# Altium integrated library Cypress Memory Static RAM.IntLib: 171 symbols (part 5 of 7)
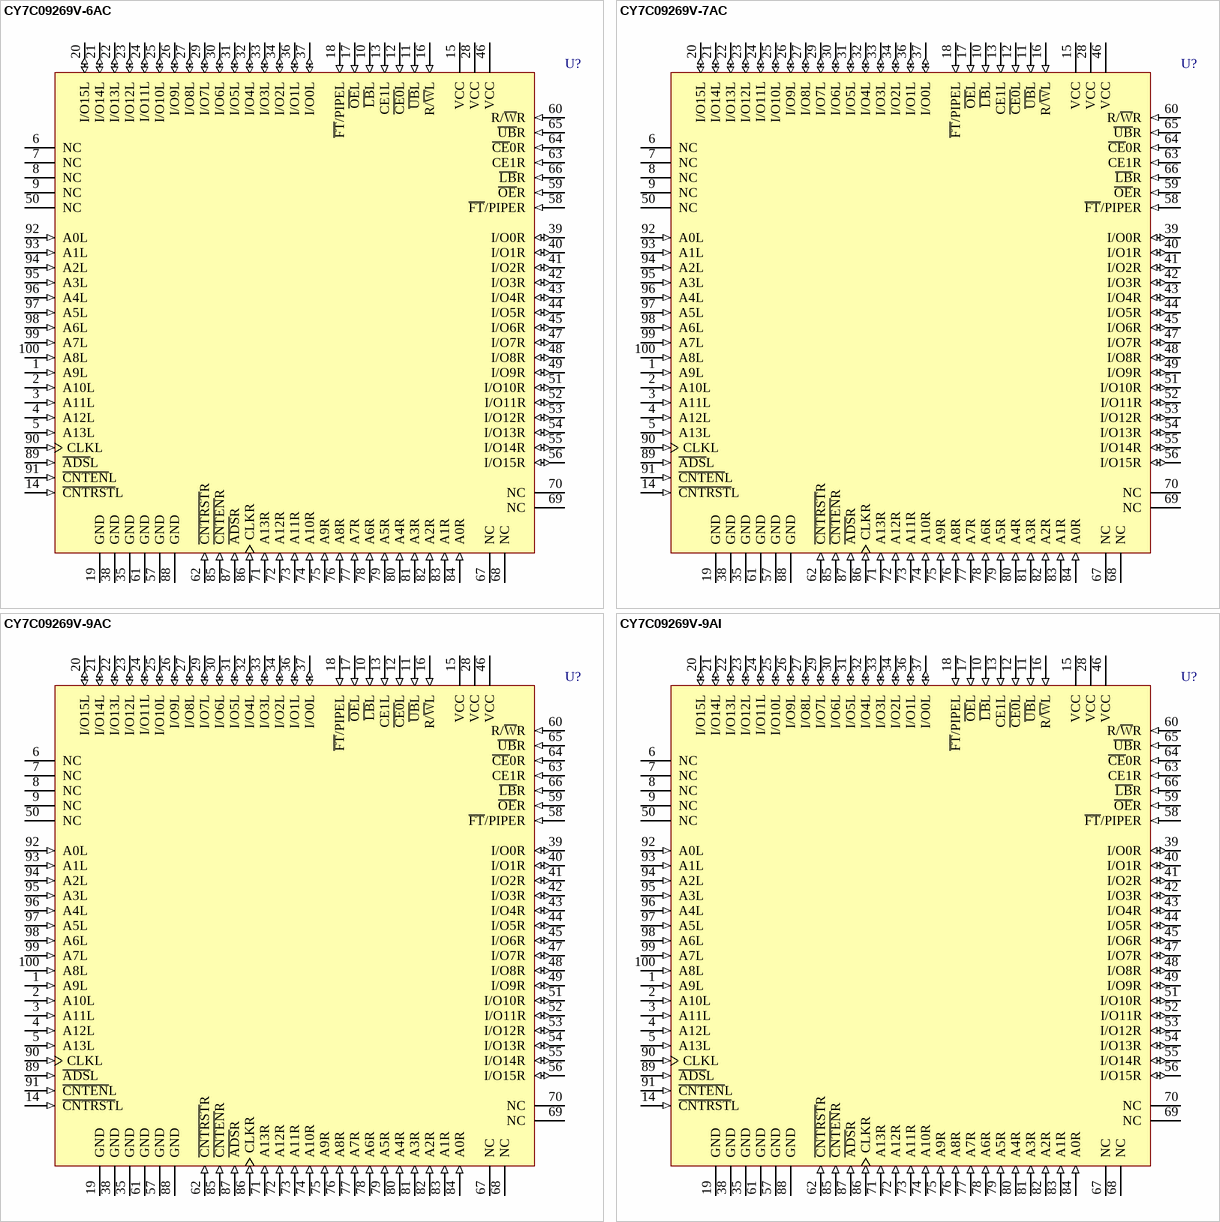
[diagram p29: symbols CY7C09269V-6AC to CY7C09269V-9AI]

## CY7C09269V-9AI
designator U?
3.3V 16K x 16 Synchronous Dual-Port Static RAM; Published: 11-Dec-2002; LatestRevisionDate: 13-Apr-2006; LatestRevisionNote: IPC-7351 Footprint Added.; DatasheetVersion: 2-Feb-2001; PackageVersion: Mar-2001; PackageReference: A100; Publisher: Altium Limited; PackageDescription: 100-Pin Thin Quad Flat Pack 0.5 mm Pitch; ComponentLink1Description: Manufacturer Link; ComponentLink1URL: http://www.cypress.com/; ComponentLink2Description: Datasheet; ComponentLink2URL: http://www.cypress.com/portal/server.pt/gateway/PTARGS_0_2_1524_209_259_43/http%3B/sjapp20.mis.cypress.com%3B7001/publishedcontent/publish/design_resources/datasheets/contents/cy7c09269v_5.pdf
footprint A100_N (Thin QFP, 100-Leads, Body 14x14mm, Pitch 0.5mm, IPC Medium Density)
footprint A100_L (Thin QFP, 100-Leads, Body 14x14mm, Pitch 0.5mm, IPC High Density)
footprint A100_M (Thin QFP, 100-Leads, Body 14x14mm, Pitch 0.5mm, IPC Low Density)
3D model CY7C09269V-A100 (100-Pin Thin Quad Flat Pack 0.5 mm Pitch)
pins: 1 A9L (in), 2 A10L (in), 3 A11L (in), 4 A12L (in), 5 A13L (in), 6 NC, 7 NC, 8 NC, 9 NC, 10 ~{LB}L (in), 11 ~{UB}L (in), 12 ~{CE0}L (in), 13 CE1L (in), 14 ~{CNTRST}L (in), 15 VCC (power), 16 R/~{W}L (in), 17 ~{OE}L (in), 18 ~{FT}/PIPEL (in), 19 GND (power), 20 I/O15L (io), 21 I/O14L (io), 22 I/O13L (io), 23 I/O12L (io), 24 I/O11L (io), 25 I/O10L (io), 26 I/O9L (io), 27 I/O8L (io), 28 VCC (power), 29 I/O7L (io), 30 I/O6L (io), 31 I/O5L (io), 32 I/O4L (io), 33 I/O3L (io), 34 I/O2L (io), 35 GND (power), 36 I/O1L (io), 37 I/O0L (io), 38 GND (power), 39 I/O0R (io), 40 I/O1R (io), 41 I/O2R (io), 42 I/O3R (io), 43 I/O4R (io), 44 I/O5R (io), 45 I/O6R (io), 46 VCC (power), 47 I/O7R (io), 48 I/O8R (io), 49 I/O9R (io), 50 NC, 51 I/O10R (io), 52 I/O11R (io), 53 I/O12R (io), 54 I/O13R (io), 55 I/O14R (io), 56 I/O15R (io), 57 GND (power), 58 ~{FT}/PIPER (in), 59 ~{OE}R (in), 60 R/~{W}R (in), 61 GND (power), 62 ~{CNTRST}R (in), 63 CE1R (in), 64 ~{CE}0R (in), 65 ~{UB}R (in), 66 ~{LB}R (in), 67 NC, 68 NC, 69 NC, 70 NC, 71 A13R (in), 72 A12R (in), 73 A11R (in), 74 A10R (in), 75 A9R (in), 76 A8R (in), 77 A7R (in), 78 A6R (in), 79 A5R (in), 80 A4R (in), 81 A3R (in), 82 A2R (in), 83 A1R (in), 84 A0R (in), 85 ~{CNTEN}R (in), 86 CLKR (in), 87 ~{ADS}R (in), 88 GND (power), 89 ~{ADS}L (in), 90 CLKL (in), 91 ~{CNTEN}L (in), 92 A0L (in), 93 A1L (in), 94 A2L (in), 95 A3L (in), 96 A4L (in), 97 A5L (in), 98 A6L (in), 99 A7L (in), 100 A8L (in)

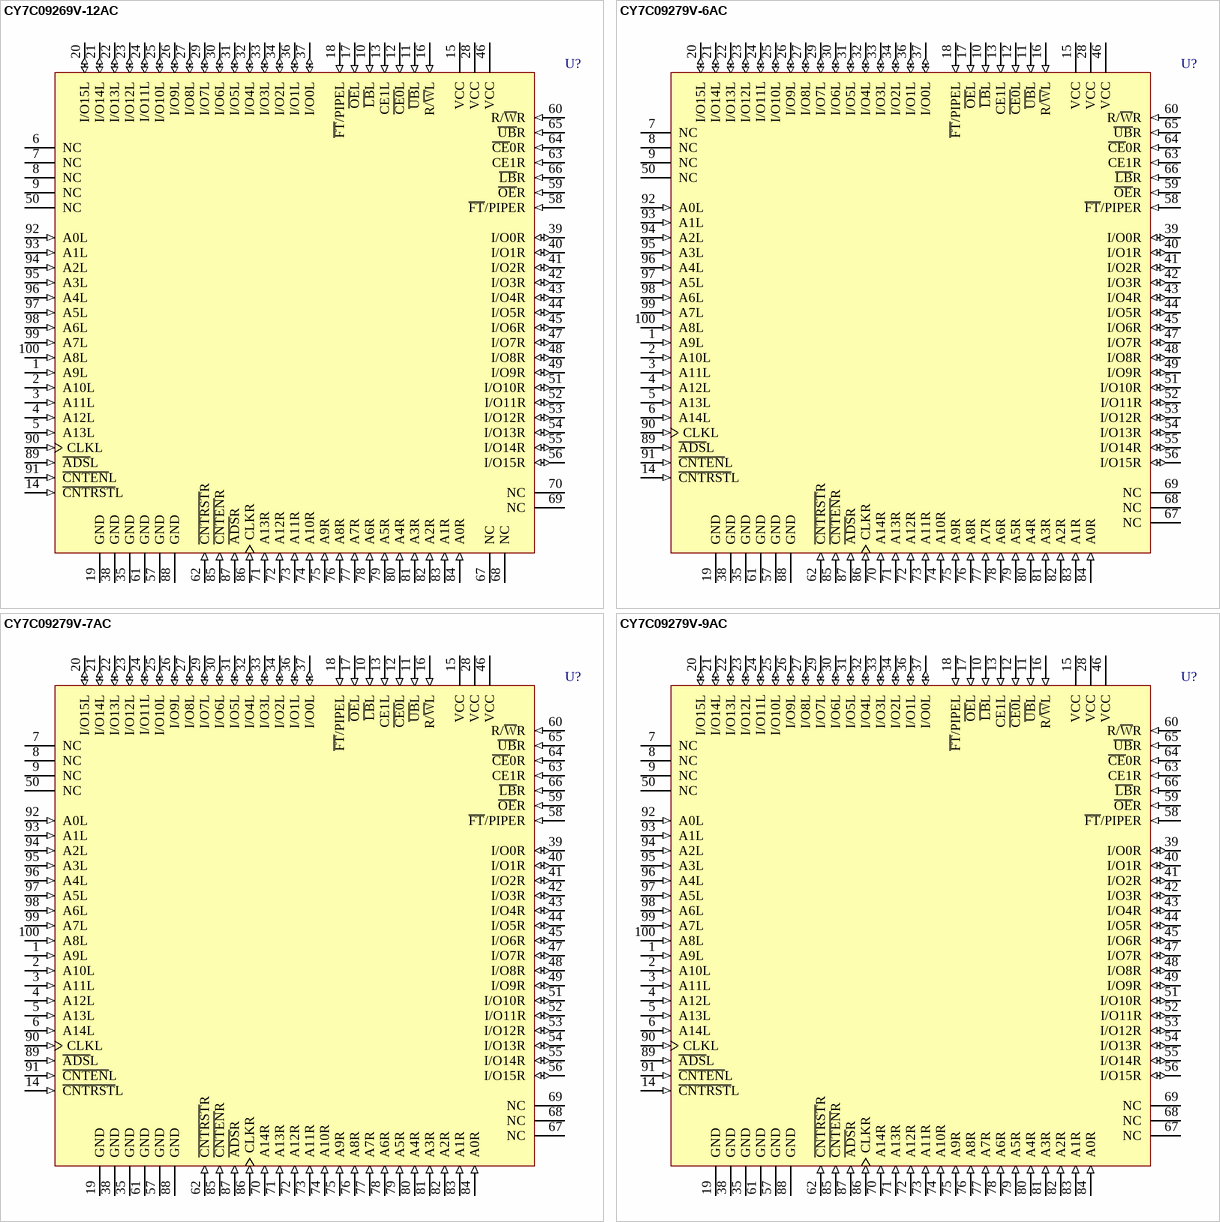
[diagram p17: symbols CY7C09269V-12AC to CY7C09279V-9AC]

## CY7C09269V-12AC
designator U?
3.3V 16K x 16 Synchronous Dual-Port Static RAM; Published: 11-Dec-2002; LatestRevisionDate: 13-Apr-2006; LatestRevisionNote: IPC-7351 Footprint Added.; DatasheetVersion: 2-Feb-2001; PackageVersion: Mar-2001; PackageReference: A100; Publisher: Altium Limited; PackageDescription: 100-Pin Thin Quad Flat Pack 0.5 mm Pitch; ComponentLink1Description: Manufacturer Link; ComponentLink1URL: http://www.cypress.com/; ComponentLink2Description: Datasheet; ComponentLink2URL: http://www.cypress.com/portal/server.pt/gateway/PTARGS_0_2_1524_209_259_43/http%3B/sjapp20.mis.cypress.com%3B7001/publishedcontent/publish/design_resources/datasheets/contents/cy7c09269v_5.pdf
footprint A100_N (Thin QFP, 100-Leads, Body 14x14mm, Pitch 0.5mm, IPC Medium Density)
footprint A100_L (Thin QFP, 100-Leads, Body 14x14mm, Pitch 0.5mm, IPC High Density)
footprint A100_M (Thin QFP, 100-Leads, Body 14x14mm, Pitch 0.5mm, IPC Low Density)
3D model CY7C09269V-A100 (100-Pin Thin Quad Flat Pack 0.5 mm Pitch)
pins: 1 A9L (in), 2 A10L (in), 3 A11L (in), 4 A12L (in), 5 A13L (in), 6 NC, 7 NC, 8 NC, 9 NC, 10 ~{LB}L (in), 11 ~{UB}L (in), 12 ~{CE0}L (in), 13 CE1L (in), 14 ~{CNTRST}L (in), 15 VCC (power), 16 R/~{W}L (in), 17 ~{OE}L (in), 18 ~{FT}/PIPEL (in), 19 GND (power), 20 I/O15L (io), 21 I/O14L (io), 22 I/O13L (io), 23 I/O12L (io), 24 I/O11L (io), 25 I/O10L (io), 26 I/O9L (io), 27 I/O8L (io), 28 VCC (power), 29 I/O7L (io), 30 I/O6L (io), 31 I/O5L (io), 32 I/O4L (io), 33 I/O3L (io), 34 I/O2L (io), 35 GND (power), 36 I/O1L (io), 37 I/O0L (io), 38 GND (power), 39 I/O0R (io), 40 I/O1R (io), 41 I/O2R (io), 42 I/O3R (io), 43 I/O4R (io), 44 I/O5R (io), 45 I/O6R (io), 46 VCC (power), 47 I/O7R (io), 48 I/O8R (io), 49 I/O9R (io), 50 NC, 51 I/O10R (io), 52 I/O11R (io), 53 I/O12R (io), 54 I/O13R (io), 55 I/O14R (io), 56 I/O15R (io), 57 GND (power), 58 ~{FT}/PIPER (in), 59 ~{OE}R (in), 60 R/~{W}R (in), 61 GND (power), 62 ~{CNTRST}R (in), 63 CE1R (in), 64 ~{CE}0R (in), 65 ~{UB}R (in), 66 ~{LB}R (in), 67 NC, 68 NC, 69 NC, 70 NC, 71 A13R (in), 72 A12R (in), 73 A11R (in), 74 A10R (in), 75 A9R (in), 76 A8R (in), 77 A7R (in), 78 A6R (in), 79 A5R (in), 80 A4R (in), 81 A3R (in), 82 A2R (in), 83 A1R (in), 84 A0R (in), 85 ~{CNTEN}R (in), 86 CLKR (in), 87 ~{ADS}R (in), 88 GND (power), 89 ~{ADS}L (in), 90 CLKL (in), 91 ~{CNTEN}L (in), 92 A0L (in), 93 A1L (in), 94 A2L (in), 95 A3L (in), 96 A4L (in), 97 A5L (in), 98 A6L (in), 99 A7L (in), 100 A8L (in)

## CY7C09279V-6AC
designator U?
3.3V 32K x 16 Synchronous Dual-Port Static RAM; Published: 11-Dec-2002; LatestRevisionDate: 13-Apr-2006; LatestRevisionNote: IPC-7351 Footprint Added.; DatasheetVersion: 2-Feb-2001; PackageVersion: Mar-2001; PackageReference: A100; Publisher: Altium Limited; PackageDescription: 100-Pin Thin Quad Flat Pack 0.5 mm Pitch; ComponentLink1Description: Manufacturer Link; ComponentLink1URL: http://www.cypress.com/; ComponentLink2Description: Datasheet; ComponentLink2URL: http://www.cypress.com/portal/server.pt/gateway/PTARGS_0_2_1524_209_259_43/http%3B/sjapp20.mis.cypress.com%3B7001/publishedcontent/publish/design_resources/datasheets/contents/cy7c09269v_5.pdf
footprint A100_N (Thin QFP, 100-Leads, Body 14x14mm, Pitch 0.5mm, IPC Medium Density)
footprint A100_L (Thin QFP, 100-Leads, Body 14x14mm, Pitch 0.5mm, IPC High Density)
footprint A100_M (Thin QFP, 100-Leads, Body 14x14mm, Pitch 0.5mm, IPC Low Density)
3D model CY7C09279V-A100 (100-Pin Thin Quad Flat Pack 0.5 mm Pitch)
pins: 1 A9L (in), 2 A10L (in), 3 A11L (in), 4 A12L (in), 5 A13L (in), 6 A14L (in), 7 NC, 8 NC, 9 NC, 10 ~{LB}L (in), 11 ~{UB}L (in), 12 ~{CE0}L (in), 13 CE1L (in), 14 ~{CNTRST}L (in), 15 VCC (power), 16 R/~{W}L (in), 17 ~{OE}L (in), 18 ~{FT}/PIPEL (in), 19 GND (power), 20 I/O15L (io), 21 I/O14L (io), 22 I/O13L (io), 23 I/O12L (io), 24 I/O11L (io), 25 I/O10L (io), 26 I/O9L (io), 27 I/O8L (io), 28 VCC (power), 29 I/O7L (io), 30 I/O6L (io), 31 I/O5L (io), 32 I/O4L (io), 33 I/O3L (io), 34 I/O2L (io), 35 GND (power), 36 I/O1L (io), 37 I/O0L (io), 38 GND (power), 39 I/O0R (io), 40 I/O1R (io), 41 I/O2R (io), 42 I/O3R (io), 43 I/O4R (io), 44 I/O5R (io), 45 I/O6R (io), 46 VCC (power), 47 I/O7R (io), 48 I/O8R (io), 49 I/O9R (io), 50 NC, 51 I/O10R (io), 52 I/O11R (io), 53 I/O12R (io), 54 I/O13R (io), 55 I/O14R (io), 56 I/O15R (io), 57 GND (power), 58 ~{FT}/PIPER (in), 59 ~{OE}R (in), 60 R/~{W}R (in), 61 GND (power), 62 ~{CNTRST}R (in), 63 CE1R (in), 64 ~{CE}0R (in), 65 ~{UB}R (in), 66 ~{LB}R (in), 67 NC, 68 NC, 69 NC, 70 A14R (in), 71 A13R (in), 72 A12R (in), 73 A11R (in), 74 A10R (in), 75 A9R (in), 76 A8R (in), 77 A7R (in), 78 A6R (in), 79 A5R (in), 80 A4R (in), 81 A3R (in), 82 A2R (in), 83 A1R (in), 84 A0R (in), 85 ~{CNTEN}R (in), 86 CLKR (in), 87 ~{ADS}R (in), 88 GND (power), 89 ~{ADS}L (in), 90 CLKL (in), 91 ~{CNTEN}L (in), 92 A0L (in), 93 A1L (in), 94 A2L (in), 95 A3L (in), 96 A4L (in), 97 A5L (in), 98 A6L (in), 99 A7L (in), 100 A8L (in)

## CY7C09279V-7AC
designator U?
3.3V 32K x 16 Synchronous Dual-Port Static RAM; Published: 11-Dec-2002; LatestRevisionDate: 13-Apr-2006; LatestRevisionNote: IPC-7351 Footprint Added.; DatasheetVersion: 2-Feb-2001; PackageVersion: Mar-2001; PackageReference: A100; Publisher: Altium Limited; PackageDescription: 100-Pin Thin Quad Flat Pack 0.5 mm Pitch; ComponentLink1Description: Manufacturer Link; ComponentLink1URL: http://www.cypress.com/; ComponentLink2Description: Datasheet; ComponentLink2URL: http://www.cypress.com/portal/server.pt/gateway/PTARGS_0_2_1524_209_259_43/http%3B/sjapp20.mis.cypress.com%3B7001/publishedcontent/publish/design_resources/datasheets/contents/cy7c09269v_5.pdf
footprint A100_N (Thin QFP, 100-Leads, Body 14x14mm, Pitch 0.5mm, IPC Medium Density)
footprint A100_L (Thin QFP, 100-Leads, Body 14x14mm, Pitch 0.5mm, IPC High Density)
footprint A100_M (Thin QFP, 100-Leads, Body 14x14mm, Pitch 0.5mm, IPC Low Density)
3D model CY7C09279V-A100 (100-Pin Thin Quad Flat Pack 0.5 mm Pitch)
pins: 1 A9L (in), 2 A10L (in), 3 A11L (in), 4 A12L (in), 5 A13L (in), 6 A14L (in), 7 NC, 8 NC, 9 NC, 10 ~{LB}L (in), 11 ~{UB}L (in), 12 ~{CE0}L (in), 13 CE1L (in), 14 ~{CNTRST}L (in), 15 VCC (power), 16 R/~{W}L (in), 17 ~{OE}L (in), 18 ~{FT}/PIPEL (in), 19 GND (power), 20 I/O15L (io), 21 I/O14L (io), 22 I/O13L (io), 23 I/O12L (io), 24 I/O11L (io), 25 I/O10L (io), 26 I/O9L (io), 27 I/O8L (io), 28 VCC (power), 29 I/O7L (io), 30 I/O6L (io), 31 I/O5L (io), 32 I/O4L (io), 33 I/O3L (io), 34 I/O2L (io), 35 GND (power), 36 I/O1L (io), 37 I/O0L (io), 38 GND (power), 39 I/O0R (io), 40 I/O1R (io), 41 I/O2R (io), 42 I/O3R (io), 43 I/O4R (io), 44 I/O5R (io), 45 I/O6R (io), 46 VCC (power), 47 I/O7R (io), 48 I/O8R (io), 49 I/O9R (io), 50 NC, 51 I/O10R (io), 52 I/O11R (io), 53 I/O12R (io), 54 I/O13R (io), 55 I/O14R (io), 56 I/O15R (io), 57 GND (power), 58 ~{FT}/PIPER (in), 59 ~{OE}R (in), 60 R/~{W}R (in), 61 GND (power), 62 ~{CNTRST}R (in), 63 CE1R (in), 64 ~{CE}0R (in), 65 ~{UB}R (in), 66 ~{LB}R (in), 67 NC, 68 NC, 69 NC, 70 A14R (in), 71 A13R (in), 72 A12R (in), 73 A11R (in), 74 A10R (in), 75 A9R (in), 76 A8R (in), 77 A7R (in), 78 A6R (in), 79 A5R (in), 80 A4R (in), 81 A3R (in), 82 A2R (in), 83 A1R (in), 84 A0R (in), 85 ~{CNTEN}R (in), 86 CLKR (in), 87 ~{ADS}R (in), 88 GND (power), 89 ~{ADS}L (in), 90 CLKL (in), 91 ~{CNTEN}L (in), 92 A0L (in), 93 A1L (in), 94 A2L (in), 95 A3L (in), 96 A4L (in), 97 A5L (in), 98 A6L (in), 99 A7L (in), 100 A8L (in)

## CY7C09279V-9AC
designator U?
3.3V 32K x 16 Synchronous Dual-Port Static RAM; Published: 11-Dec-2002; LatestRevisionDate: 13-Apr-2006; LatestRevisionNote: IPC-7351 Footprint Added.; DatasheetVersion: 2-Feb-2001; PackageVersion: Mar-2001; PackageReference: A100; Publisher: Altium Limited; PackageDescription: 100-Pin Thin Quad Flat Pack 0.5 mm Pitch; ComponentLink1Description: Manufacturer Link; ComponentLink1URL: http://www.cypress.com/; ComponentLink2Description: Datasheet; ComponentLink2URL: http://www.cypress.com/portal/server.pt/gateway/PTARGS_0_2_1524_209_259_43/http%3B/sjapp20.mis.cypress.com%3B7001/publishedcontent/publish/design_resources/datasheets/contents/cy7c09269v_5.pdf
footprint A100_N (Thin QFP, 100-Leads, Body 14x14mm, Pitch 0.5mm, IPC Medium Density)
footprint A100_L (Thin QFP, 100-Leads, Body 14x14mm, Pitch 0.5mm, IPC High Density)
footprint A100_M (Thin QFP, 100-Leads, Body 14x14mm, Pitch 0.5mm, IPC Low Density)
3D model CY7C09279V-A100 (100-Pin Thin Quad Flat Pack 0.5 mm Pitch)
pins: 1 A9L (in), 2 A10L (in), 3 A11L (in), 4 A12L (in), 5 A13L (in), 6 A14L (in), 7 NC, 8 NC, 9 NC, 10 ~{LB}L (in), 11 ~{UB}L (in), 12 ~{CE0}L (in), 13 CE1L (in), 14 ~{CNTRST}L (in), 15 VCC (power), 16 R/~{W}L (in), 17 ~{OE}L (in), 18 ~{FT}/PIPEL (in), 19 GND (power), 20 I/O15L (io), 21 I/O14L (io), 22 I/O13L (io), 23 I/O12L (io), 24 I/O11L (io), 25 I/O10L (io), 26 I/O9L (io), 27 I/O8L (io), 28 VCC (power), 29 I/O7L (io), 30 I/O6L (io), 31 I/O5L (io), 32 I/O4L (io), 33 I/O3L (io), 34 I/O2L (io), 35 GND (power), 36 I/O1L (io), 37 I/O0L (io), 38 GND (power), 39 I/O0R (io), 40 I/O1R (io), 41 I/O2R (io), 42 I/O3R (io), 43 I/O4R (io), 44 I/O5R (io), 45 I/O6R (io), 46 VCC (power), 47 I/O7R (io), 48 I/O8R (io), 49 I/O9R (io), 50 NC, 51 I/O10R (io), 52 I/O11R (io), 53 I/O12R (io), 54 I/O13R (io), 55 I/O14R (io), 56 I/O15R (io), 57 GND (power), 58 ~{FT}/PIPER (in), 59 ~{OE}R (in), 60 R/~{W}R (in), 61 GND (power), 62 ~{CNTRST}R (in), 63 CE1R (in), 64 ~{CE}0R (in), 65 ~{UB}R (in), 66 ~{LB}R (in), 67 NC, 68 NC, 69 NC, 70 A14R (in), 71 A13R (in), 72 A12R (in), 73 A11R (in), 74 A10R (in), 75 A9R (in), 76 A8R (in), 77 A7R (in), 78 A6R (in), 79 A5R (in), 80 A4R (in), 81 A3R (in), 82 A2R (in), 83 A1R (in), 84 A0R (in), 85 ~{CNTEN}R (in), 86 CLKR (in), 87 ~{ADS}R (in), 88 GND (power), 89 ~{ADS}L (in), 90 CLKL (in), 91 ~{CNTEN}L (in), 92 A0L (in), 93 A1L (in), 94 A2L (in), 95 A3L (in), 96 A4L (in), 97 A5L (in), 98 A6L (in), 99 A7L (in), 100 A8L (in)

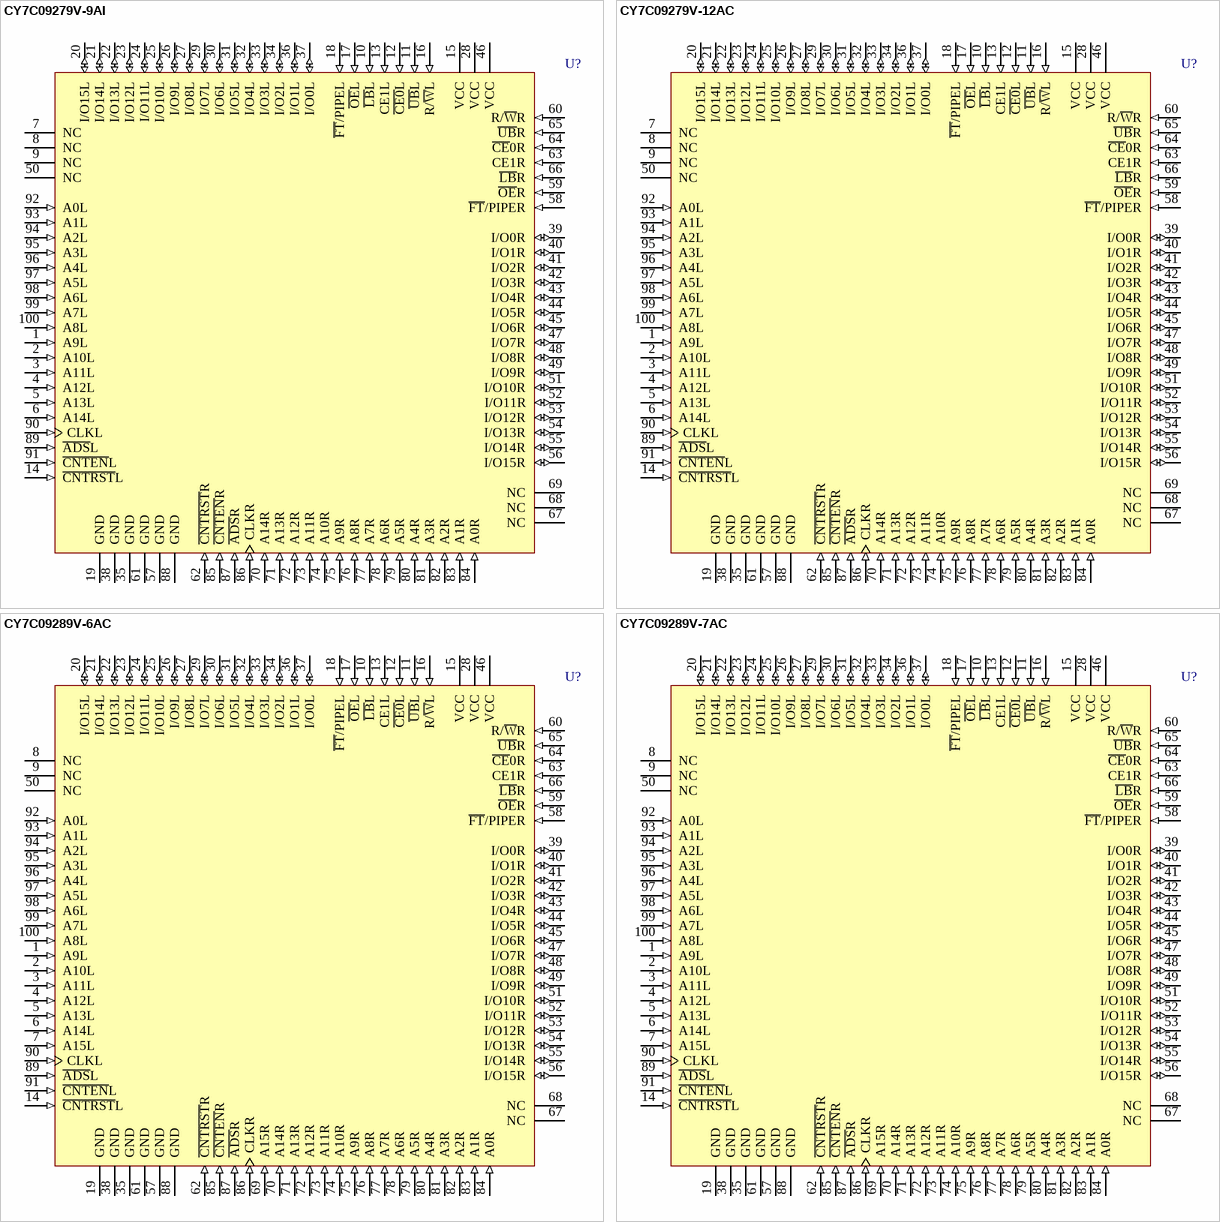
[diagram p18: symbols CY7C09279V-9AI to CY7C09289V-7AC]

## CY7C09279V-9AI
designator U?
3.3V 32K x 16 Synchronous Dual-Port Static RAM; Published: 11-Dec-2002; LatestRevisionDate: 13-Apr-2006; LatestRevisionNote: IPC-7351 Footprint Added.; DatasheetVersion: 2-Feb-2001; PackageVersion: Mar-2001; PackageReference: A100; Publisher: Altium Limited; PackageDescription: 100-Pin Thin Quad Flat Pack 0.5 mm Pitch; ComponentLink1Description: Manufacturer Link; ComponentLink1URL: http://www.cypress.com/; ComponentLink2Description: Datasheet; ComponentLink2URL: http://www.cypress.com/portal/server.pt/gateway/PTARGS_0_2_1524_209_259_43/http%3B/sjapp20.mis.cypress.com%3B7001/publishedcontent/publish/design_resources/datasheets/contents/cy7c09269v_5.pdf
footprint A100_N (Thin QFP, 100-Leads, Body 14x14mm, Pitch 0.5mm, IPC Medium Density)
footprint A100_L (Thin QFP, 100-Leads, Body 14x14mm, Pitch 0.5mm, IPC High Density)
footprint A100_M (Thin QFP, 100-Leads, Body 14x14mm, Pitch 0.5mm, IPC Low Density)
3D model CY7C09279V-A100 (100-Pin Thin Quad Flat Pack 0.5 mm Pitch)
pins: 1 A9L (in), 2 A10L (in), 3 A11L (in), 4 A12L (in), 5 A13L (in), 6 A14L (in), 7 NC, 8 NC, 9 NC, 10 ~{LB}L (in), 11 ~{UB}L (in), 12 ~{CE0}L (in), 13 CE1L (in), 14 ~{CNTRST}L (in), 15 VCC (power), 16 R/~{W}L (in), 17 ~{OE}L (in), 18 ~{FT}/PIPEL (in), 19 GND (power), 20 I/O15L (io), 21 I/O14L (io), 22 I/O13L (io), 23 I/O12L (io), 24 I/O11L (io), 25 I/O10L (io), 26 I/O9L (io), 27 I/O8L (io), 28 VCC (power), 29 I/O7L (io), 30 I/O6L (io), 31 I/O5L (io), 32 I/O4L (io), 33 I/O3L (io), 34 I/O2L (io), 35 GND (power), 36 I/O1L (io), 37 I/O0L (io), 38 GND (power), 39 I/O0R (io), 40 I/O1R (io), 41 I/O2R (io), 42 I/O3R (io), 43 I/O4R (io), 44 I/O5R (io), 45 I/O6R (io), 46 VCC (power), 47 I/O7R (io), 48 I/O8R (io), 49 I/O9R (io), 50 NC, 51 I/O10R (io), 52 I/O11R (io), 53 I/O12R (io), 54 I/O13R (io), 55 I/O14R (io), 56 I/O15R (io), 57 GND (power), 58 ~{FT}/PIPER (in), 59 ~{OE}R (in), 60 R/~{W}R (in), 61 GND (power), 62 ~{CNTRST}R (in), 63 CE1R (in), 64 ~{CE}0R (in), 65 ~{UB}R (in), 66 ~{LB}R (in), 67 NC, 68 NC, 69 NC, 70 A14R (in), 71 A13R (in), 72 A12R (in), 73 A11R (in), 74 A10R (in), 75 A9R (in), 76 A8R (in), 77 A7R (in), 78 A6R (in), 79 A5R (in), 80 A4R (in), 81 A3R (in), 82 A2R (in), 83 A1R (in), 84 A0R (in), 85 ~{CNTEN}R (in), 86 CLKR (in), 87 ~{ADS}R (in), 88 GND (power), 89 ~{ADS}L (in), 90 CLKL (in), 91 ~{CNTEN}L (in), 92 A0L (in), 93 A1L (in), 94 A2L (in), 95 A3L (in), 96 A4L (in), 97 A5L (in), 98 A6L (in), 99 A7L (in), 100 A8L (in)

## CY7C09279V-12AC
designator U?
3.3V 32K x 16 Synchronous Dual-Port Static RAM; Published: 11-Dec-2002; LatestRevisionDate: 13-Apr-2006; LatestRevisionNote: IPC-7351 Footprint Added.; DatasheetVersion: 2-Feb-2001; PackageVersion: Mar-2001; PackageReference: A100; Publisher: Altium Limited; PackageDescription: 100-Pin Thin Quad Flat Pack 0.5 mm Pitch; ComponentLink1Description: Manufacturer Link; ComponentLink1URL: http://www.cypress.com/; ComponentLink2Description: Datasheet; ComponentLink2URL: http://www.cypress.com/portal/server.pt/gateway/PTARGS_0_2_1524_209_259_43/http%3B/sjapp20.mis.cypress.com%3B7001/publishedcontent/publish/design_resources/datasheets/contents/cy7c09269v_5.pdf
footprint A100_N (Thin QFP, 100-Leads, Body 14x14mm, Pitch 0.5mm, IPC Medium Density)
footprint A100_L (Thin QFP, 100-Leads, Body 14x14mm, Pitch 0.5mm, IPC High Density)
footprint A100_M (Thin QFP, 100-Leads, Body 14x14mm, Pitch 0.5mm, IPC Low Density)
3D model CY7C09279V-A100 (100-Pin Thin Quad Flat Pack 0.5 mm Pitch)
pins: 1 A9L (in), 2 A10L (in), 3 A11L (in), 4 A12L (in), 5 A13L (in), 6 A14L (in), 7 NC, 8 NC, 9 NC, 10 ~{LB}L (in), 11 ~{UB}L (in), 12 ~{CE0}L (in), 13 CE1L (in), 14 ~{CNTRST}L (in), 15 VCC (power), 16 R/~{W}L (in), 17 ~{OE}L (in), 18 ~{FT}/PIPEL (in), 19 GND (power), 20 I/O15L (io), 21 I/O14L (io), 22 I/O13L (io), 23 I/O12L (io), 24 I/O11L (io), 25 I/O10L (io), 26 I/O9L (io), 27 I/O8L (io), 28 VCC (power), 29 I/O7L (io), 30 I/O6L (io), 31 I/O5L (io), 32 I/O4L (io), 33 I/O3L (io), 34 I/O2L (io), 35 GND (power), 36 I/O1L (io), 37 I/O0L (io), 38 GND (power), 39 I/O0R (io), 40 I/O1R (io), 41 I/O2R (io), 42 I/O3R (io), 43 I/O4R (io), 44 I/O5R (io), 45 I/O6R (io), 46 VCC (power), 47 I/O7R (io), 48 I/O8R (io), 49 I/O9R (io), 50 NC, 51 I/O10R (io), 52 I/O11R (io), 53 I/O12R (io), 54 I/O13R (io), 55 I/O14R (io), 56 I/O15R (io), 57 GND (power), 58 ~{FT}/PIPER (in), 59 ~{OE}R (in), 60 R/~{W}R (in), 61 GND (power), 62 ~{CNTRST}R (in), 63 CE1R (in), 64 ~{CE}0R (in), 65 ~{UB}R (in), 66 ~{LB}R (in), 67 NC, 68 NC, 69 NC, 70 A14R (in), 71 A13R (in), 72 A12R (in), 73 A11R (in), 74 A10R (in), 75 A9R (in), 76 A8R (in), 77 A7R (in), 78 A6R (in), 79 A5R (in), 80 A4R (in), 81 A3R (in), 82 A2R (in), 83 A1R (in), 84 A0R (in), 85 ~{CNTEN}R (in), 86 CLKR (in), 87 ~{ADS}R (in), 88 GND (power), 89 ~{ADS}L (in), 90 CLKL (in), 91 ~{CNTEN}L (in), 92 A0L (in), 93 A1L (in), 94 A2L (in), 95 A3L (in), 96 A4L (in), 97 A5L (in), 98 A6L (in), 99 A7L (in), 100 A8L (in)

## CY7C09289V-6AC
designator U?
3.3V 64K x 16 Synchronous Dual-Port Static RAM; Published: 11-Dec-2002; LatestRevisionDate: 13-Apr-2006; LatestRevisionNote: IPC-7351 Footprint Added.; DatasheetVersion: 2-Feb-2001; PackageVersion: Mar-2001; PackageReference: A100; Publisher: Altium Limited; PackageDescription: 100-Pin Thin Quad Flat Pack 0.5 mm Pitch; ComponentLink1Description: Manufacturer Link; ComponentLink1URL: http://www.cypress.com/; ComponentLink2Description: Datasheet; ComponentLink2URL: http://www.cypress.com/portal/server.pt/gateway/PTARGS_0_2_1524_209_259_43/http%3B/sjapp20.mis.cypress.com%3B7001/publishedcontent/publish/design_resources/datasheets/contents/cy7c09269v_5.pdf
footprint A100_N (Thin QFP, 100-Leads, Body 14x14mm, Pitch 0.5mm, IPC Medium Density)
footprint A100_L (Thin QFP, 100-Leads, Body 14x14mm, Pitch 0.5mm, IPC High Density)
footprint A100_M (Thin QFP, 100-Leads, Body 14x14mm, Pitch 0.5mm, IPC Low Density)
3D model CY7C09289V-A100 (100-Pin Thin Quad Flat Pack 0.5 mm Pitch)
pins: 1 A9L (in), 2 A10L (in), 3 A11L (in), 4 A12L (in), 5 A13L (in), 6 A14L (in), 7 A15L (in), 8 NC, 9 NC, 10 ~{LB}L (in), 11 ~{UB}L (in), 12 ~{CE0}L (in), 13 CE1L (in), 14 ~{CNTRST}L (in), 15 VCC (power), 16 R/~{W}L (in), 17 ~{OE}L (in), 18 ~{FT}/PIPEL (in), 19 GND (power), 20 I/O15L (io), 21 I/O14L (io), 22 I/O13L (io), 23 I/O12L (io), 24 I/O11L (io), 25 I/O10L (io), 26 I/O9L (io), 27 I/O8L (io), 28 VCC (power), 29 I/O7L (io), 30 I/O6L (io), 31 I/O5L (io), 32 I/O4L (io), 33 I/O3L (io), 34 I/O2L (io), 35 GND (power), 36 I/O1L (io), 37 I/O0L (io), 38 GND (power), 39 I/O0R (io), 40 I/O1R (io), 41 I/O2R (io), 42 I/O3R (io), 43 I/O4R (io), 44 I/O5R (io), 45 I/O6R (io), 46 VCC (power), 47 I/O7R (io), 48 I/O8R (io), 49 I/O9R (io), 50 NC, 51 I/O10R (io), 52 I/O11R (io), 53 I/O12R (io), 54 I/O13R (io), 55 I/O14R (io), 56 I/O15R (io), 57 GND (power), 58 ~{FT}/PIPER (in), 59 ~{OE}R (in), 60 R/~{W}R (in), 61 GND (power), 62 ~{CNTRST}R (in), 63 CE1R (in), 64 ~{CE}0R (in), 65 ~{UB}R (in), 66 ~{LB}R (in), 67 NC, 68 NC, 69 A15R (in), 70 A14R (in), 71 A13R (in), 72 A12R (in), 73 A11R (in), 74 A10R (in), 75 A9R (in), 76 A8R (in), 77 A7R (in), 78 A6R (in), 79 A5R (in), 80 A4R (in), 81 A3R (in), 82 A2R (in), 83 A1R (in), 84 A0R (in), 85 ~{CNTEN}R (in), 86 CLKR (in), 87 ~{ADS}R (in), 88 GND (power), 89 ~{ADS}L (in), 90 CLKL (in), 91 ~{CNTEN}L (in), 92 A0L (in), 93 A1L (in), 94 A2L (in), 95 A3L (in), 96 A4L (in), 97 A5L (in), 98 A6L (in), 99 A7L (in), 100 A8L (in)

## CY7C09289V-7AC
designator U?
3.3V 64K x 16 Synchronous Dual-Port Static RAM; Published: 11-Dec-2002; LatestRevisionDate: 13-Apr-2006; LatestRevisionNote: IPC-7351 Footprint Added.; DatasheetVersion: 2-Feb-2001; PackageVersion: Mar-2001; PackageReference: A100; Publisher: Altium Limited; PackageDescription: 100-Pin Thin Quad Flat Pack 0.5 mm Pitch; ComponentLink1Description: Manufacturer Link; ComponentLink1URL: http://www.cypress.com/; ComponentLink2Description: Datasheet; ComponentLink2URL: http://www.cypress.com/portal/server.pt/gateway/PTARGS_0_2_1524_209_259_43/http%3B/sjapp20.mis.cypress.com%3B7001/publishedcontent/publish/design_resources/datasheets/contents/cy7c09269v_5.pdf
footprint A100_N (Thin QFP, 100-Leads, Body 14x14mm, Pitch 0.5mm, IPC Medium Density)
footprint A100_L (Thin QFP, 100-Leads, Body 14x14mm, Pitch 0.5mm, IPC High Density)
footprint A100_M (Thin QFP, 100-Leads, Body 14x14mm, Pitch 0.5mm, IPC Low Density)
3D model CY7C09289V-A100 (100-Pin Thin Quad Flat Pack 0.5 mm Pitch)
pins: 1 A9L (in), 2 A10L (in), 3 A11L (in), 4 A12L (in), 5 A13L (in), 6 A14L (in), 7 A15L (in), 8 NC, 9 NC, 10 ~{LB}L (in), 11 ~{UB}L (in), 12 ~{CE0}L (in), 13 CE1L (in), 14 ~{CNTRST}L (in), 15 VCC (power), 16 R/~{W}L (in), 17 ~{OE}L (in), 18 ~{FT}/PIPEL (in), 19 GND (power), 20 I/O15L (io), 21 I/O14L (io), 22 I/O13L (io), 23 I/O12L (io), 24 I/O11L (io), 25 I/O10L (io), 26 I/O9L (io), 27 I/O8L (io), 28 VCC (power), 29 I/O7L (io), 30 I/O6L (io), 31 I/O5L (io), 32 I/O4L (io), 33 I/O3L (io), 34 I/O2L (io), 35 GND (power), 36 I/O1L (io), 37 I/O0L (io), 38 GND (power), 39 I/O0R (io), 40 I/O1R (io), 41 I/O2R (io), 42 I/O3R (io), 43 I/O4R (io), 44 I/O5R (io), 45 I/O6R (io), 46 VCC (power), 47 I/O7R (io), 48 I/O8R (io), 49 I/O9R (io), 50 NC, 51 I/O10R (io), 52 I/O11R (io), 53 I/O12R (io), 54 I/O13R (io), 55 I/O14R (io), 56 I/O15R (io), 57 GND (power), 58 ~{FT}/PIPER (in), 59 ~{OE}R (in), 60 R/~{W}R (in), 61 GND (power), 62 ~{CNTRST}R (in), 63 CE1R (in), 64 ~{CE}0R (in), 65 ~{UB}R (in), 66 ~{LB}R (in), 67 NC, 68 NC, 69 A15R (in), 70 A14R (in), 71 A13R (in), 72 A12R (in), 73 A11R (in), 74 A10R (in), 75 A9R (in), 76 A8R (in), 77 A7R (in), 78 A6R (in), 79 A5R (in), 80 A4R (in), 81 A3R (in), 82 A2R (in), 83 A1R (in), 84 A0R (in), 85 ~{CNTEN}R (in), 86 CLKR (in), 87 ~{ADS}R (in), 88 GND (power), 89 ~{ADS}L (in), 90 CLKL (in), 91 ~{CNTEN}L (in), 92 A0L (in), 93 A1L (in), 94 A2L (in), 95 A3L (in), 96 A4L (in), 97 A5L (in), 98 A6L (in), 99 A7L (in), 100 A8L (in)

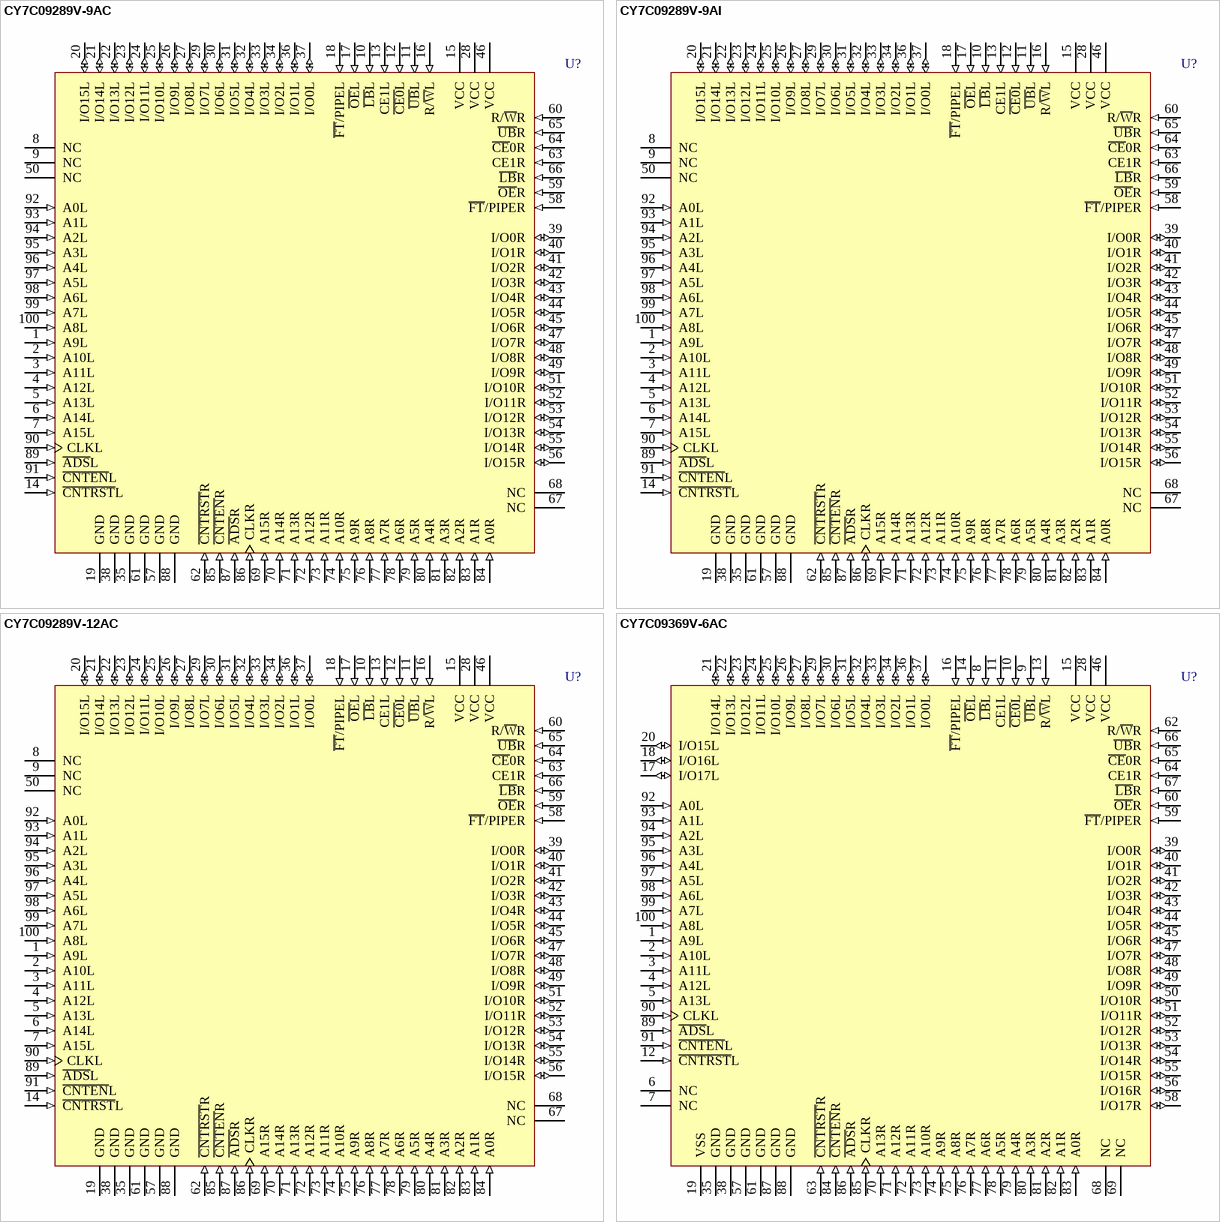
[diagram p19: symbols CY7C09289V-9AC to CY7C09369V-6AC]

## CY7C09289V-9AC
designator U?
3.3V 64K x 16 Synchronous Dual-Port Static RAM; Published: 11-Dec-2002; LatestRevisionDate: 13-Apr-2006; LatestRevisionNote: IPC-7351 Footprint Added.; DatasheetVersion: 2-Feb-2001; PackageVersion: Mar-2001; PackageReference: A100; Publisher: Altium Limited; PackageDescription: 100-Pin Thin Quad Flat Pack 0.5 mm Pitch; ComponentLink1Description: Manufacturer Link; ComponentLink1URL: http://www.cypress.com/; ComponentLink2Description: Datasheet; ComponentLink2URL: http://www.cypress.com/portal/server.pt/gateway/PTARGS_0_2_1524_209_259_43/http%3B/sjapp20.mis.cypress.com%3B7001/publishedcontent/publish/design_resources/datasheets/contents/cy7c09269v_5.pdf
footprint A100_N (Thin QFP, 100-Leads, Body 14x14mm, Pitch 0.5mm, IPC Medium Density)
footprint A100_L (Thin QFP, 100-Leads, Body 14x14mm, Pitch 0.5mm, IPC High Density)
footprint A100_M (Thin QFP, 100-Leads, Body 14x14mm, Pitch 0.5mm, IPC Low Density)
3D model CY7C09289V-A100 (100-Pin Thin Quad Flat Pack 0.5 mm Pitch)
pins: 1 A9L (in), 2 A10L (in), 3 A11L (in), 4 A12L (in), 5 A13L (in), 6 A14L (in), 7 A15L (in), 8 NC, 9 NC, 10 ~{LB}L (in), 11 ~{UB}L (in), 12 ~{CE0}L (in), 13 CE1L (in), 14 ~{CNTRST}L (in), 15 VCC (power), 16 R/~{W}L (in), 17 ~{OE}L (in), 18 ~{FT}/PIPEL (in), 19 GND (power), 20 I/O15L (io), 21 I/O14L (io), 22 I/O13L (io), 23 I/O12L (io), 24 I/O11L (io), 25 I/O10L (io), 26 I/O9L (io), 27 I/O8L (io), 28 VCC (power), 29 I/O7L (io), 30 I/O6L (io), 31 I/O5L (io), 32 I/O4L (io), 33 I/O3L (io), 34 I/O2L (io), 35 GND (power), 36 I/O1L (io), 37 I/O0L (io), 38 GND (power), 39 I/O0R (io), 40 I/O1R (io), 41 I/O2R (io), 42 I/O3R (io), 43 I/O4R (io), 44 I/O5R (io), 45 I/O6R (io), 46 VCC (power), 47 I/O7R (io), 48 I/O8R (io), 49 I/O9R (io), 50 NC, 51 I/O10R (io), 52 I/O11R (io), 53 I/O12R (io), 54 I/O13R (io), 55 I/O14R (io), 56 I/O15R (io), 57 GND (power), 58 ~{FT}/PIPER (in), 59 ~{OE}R (in), 60 R/~{W}R (in), 61 GND (power), 62 ~{CNTRST}R (in), 63 CE1R (in), 64 ~{CE}0R (in), 65 ~{UB}R (in), 66 ~{LB}R (in), 67 NC, 68 NC, 69 A15R (in), 70 A14R (in), 71 A13R (in), 72 A12R (in), 73 A11R (in), 74 A10R (in), 75 A9R (in), 76 A8R (in), 77 A7R (in), 78 A6R (in), 79 A5R (in), 80 A4R (in), 81 A3R (in), 82 A2R (in), 83 A1R (in), 84 A0R (in), 85 ~{CNTEN}R (in), 86 CLKR (in), 87 ~{ADS}R (in), 88 GND (power), 89 ~{ADS}L (in), 90 CLKL (in), 91 ~{CNTEN}L (in), 92 A0L (in), 93 A1L (in), 94 A2L (in), 95 A3L (in), 96 A4L (in), 97 A5L (in), 98 A6L (in), 99 A7L (in), 100 A8L (in)

## CY7C09289V-9AI
designator U?
3.3V 64K x 16 Synchronous Dual-Port Static RAM; Published: 11-Dec-2002; LatestRevisionDate: 13-Apr-2006; LatestRevisionNote: IPC-7351 Footprint Added.; DatasheetVersion: 2-Feb-2001; PackageVersion: Mar-2001; PackageReference: A100; Publisher: Altium Limited; PackageDescription: 100-Pin Thin Quad Flat Pack 0.5 mm Pitch; ComponentLink1Description: Manufacturer Link; ComponentLink1URL: http://www.cypress.com/; ComponentLink2Description: Datasheet; ComponentLink2URL: http://www.cypress.com/portal/server.pt/gateway/PTARGS_0_2_1524_209_259_43/http%3B/sjapp20.mis.cypress.com%3B7001/publishedcontent/publish/design_resources/datasheets/contents/cy7c09269v_5.pdf
footprint A100_N (Thin QFP, 100-Leads, Body 14x14mm, Pitch 0.5mm, IPC Medium Density)
footprint A100_L (Thin QFP, 100-Leads, Body 14x14mm, Pitch 0.5mm, IPC High Density)
footprint A100_M (Thin QFP, 100-Leads, Body 14x14mm, Pitch 0.5mm, IPC Low Density)
3D model CY7C09289V-A100 (100-Pin Thin Quad Flat Pack 0.5 mm Pitch)
pins: 1 A9L (in), 2 A10L (in), 3 A11L (in), 4 A12L (in), 5 A13L (in), 6 A14L (in), 7 A15L (in), 8 NC, 9 NC, 10 ~{LB}L (in), 11 ~{UB}L (in), 12 ~{CE0}L (in), 13 CE1L (in), 14 ~{CNTRST}L (in), 15 VCC (power), 16 R/~{W}L (in), 17 ~{OE}L (in), 18 ~{FT}/PIPEL (in), 19 GND (power), 20 I/O15L (io), 21 I/O14L (io), 22 I/O13L (io), 23 I/O12L (io), 24 I/O11L (io), 25 I/O10L (io), 26 I/O9L (io), 27 I/O8L (io), 28 VCC (power), 29 I/O7L (io), 30 I/O6L (io), 31 I/O5L (io), 32 I/O4L (io), 33 I/O3L (io), 34 I/O2L (io), 35 GND (power), 36 I/O1L (io), 37 I/O0L (io), 38 GND (power), 39 I/O0R (io), 40 I/O1R (io), 41 I/O2R (io), 42 I/O3R (io), 43 I/O4R (io), 44 I/O5R (io), 45 I/O6R (io), 46 VCC (power), 47 I/O7R (io), 48 I/O8R (io), 49 I/O9R (io), 50 NC, 51 I/O10R (io), 52 I/O11R (io), 53 I/O12R (io), 54 I/O13R (io), 55 I/O14R (io), 56 I/O15R (io), 57 GND (power), 58 ~{FT}/PIPER (in), 59 ~{OE}R (in), 60 R/~{W}R (in), 61 GND (power), 62 ~{CNTRST}R (in), 63 CE1R (in), 64 ~{CE}0R (in), 65 ~{UB}R (in), 66 ~{LB}R (in), 67 NC, 68 NC, 69 A15R (in), 70 A14R (in), 71 A13R (in), 72 A12R (in), 73 A11R (in), 74 A10R (in), 75 A9R (in), 76 A8R (in), 77 A7R (in), 78 A6R (in), 79 A5R (in), 80 A4R (in), 81 A3R (in), 82 A2R (in), 83 A1R (in), 84 A0R (in), 85 ~{CNTEN}R (in), 86 CLKR (in), 87 ~{ADS}R (in), 88 GND (power), 89 ~{ADS}L (in), 90 CLKL (in), 91 ~{CNTEN}L (in), 92 A0L (in), 93 A1L (in), 94 A2L (in), 95 A3L (in), 96 A4L (in), 97 A5L (in), 98 A6L (in), 99 A7L (in), 100 A8L (in)

## CY7C09289V-12AC
designator U?
3.3V 64K x 16 Synchronous Dual-Port Static RAM; Published: 11-Dec-2002; LatestRevisionDate: 13-Apr-2006; LatestRevisionNote: IPC-7351 Footprint Added.; DatasheetVersion: 2-Feb-2001; PackageVersion: Mar-2001; PackageReference: A100; Publisher: Altium Limited; PackageDescription: 100-Pin Thin Quad Flat Pack 0.5 mm Pitch; ComponentLink1Description: Manufacturer Link; ComponentLink1URL: http://www.cypress.com/; ComponentLink2Description: Datasheet; ComponentLink2URL: http://www.cypress.com/portal/server.pt/gateway/PTARGS_0_2_1524_209_259_43/http%3B/sjapp20.mis.cypress.com%3B7001/publishedcontent/publish/design_resources/datasheets/contents/cy7c09269v_5.pdf
footprint A100_N (Thin QFP, 100-Leads, Body 14x14mm, Pitch 0.5mm, IPC Medium Density)
footprint A100_L (Thin QFP, 100-Leads, Body 14x14mm, Pitch 0.5mm, IPC High Density)
footprint A100_M (Thin QFP, 100-Leads, Body 14x14mm, Pitch 0.5mm, IPC Low Density)
3D model CY7C09289V-A100 (100-Pin Thin Quad Flat Pack 0.5 mm Pitch)
pins: 1 A9L (in), 2 A10L (in), 3 A11L (in), 4 A12L (in), 5 A13L (in), 6 A14L (in), 7 A15L (in), 8 NC, 9 NC, 10 ~{LB}L (in), 11 ~{UB}L (in), 12 ~{CE0}L (in), 13 CE1L (in), 14 ~{CNTRST}L (in), 15 VCC (power), 16 R/~{W}L (in), 17 ~{OE}L (in), 18 ~{FT}/PIPEL (in), 19 GND (power), 20 I/O15L (io), 21 I/O14L (io), 22 I/O13L (io), 23 I/O12L (io), 24 I/O11L (io), 25 I/O10L (io), 26 I/O9L (io), 27 I/O8L (io), 28 VCC (power), 29 I/O7L (io), 30 I/O6L (io), 31 I/O5L (io), 32 I/O4L (io), 33 I/O3L (io), 34 I/O2L (io), 35 GND (power), 36 I/O1L (io), 37 I/O0L (io), 38 GND (power), 39 I/O0R (io), 40 I/O1R (io), 41 I/O2R (io), 42 I/O3R (io), 43 I/O4R (io), 44 I/O5R (io), 45 I/O6R (io), 46 VCC (power), 47 I/O7R (io), 48 I/O8R (io), 49 I/O9R (io), 50 NC, 51 I/O10R (io), 52 I/O11R (io), 53 I/O12R (io), 54 I/O13R (io), 55 I/O14R (io), 56 I/O15R (io), 57 GND (power), 58 ~{FT}/PIPER (in), 59 ~{OE}R (in), 60 R/~{W}R (in), 61 GND (power), 62 ~{CNTRST}R (in), 63 CE1R (in), 64 ~{CE}0R (in), 65 ~{UB}R (in), 66 ~{LB}R (in), 67 NC, 68 NC, 69 A15R (in), 70 A14R (in), 71 A13R (in), 72 A12R (in), 73 A11R (in), 74 A10R (in), 75 A9R (in), 76 A8R (in), 77 A7R (in), 78 A6R (in), 79 A5R (in), 80 A4R (in), 81 A3R (in), 82 A2R (in), 83 A1R (in), 84 A0R (in), 85 ~{CNTEN}R (in), 86 CLKR (in), 87 ~{ADS}R (in), 88 GND (power), 89 ~{ADS}L (in), 90 CLKL (in), 91 ~{CNTEN}L (in), 92 A0L (in), 93 A1L (in), 94 A2L (in), 95 A3L (in), 96 A4L (in), 97 A5L (in), 98 A6L (in), 99 A7L (in), 100 A8L (in)

## CY7C09369V-6AC
designator U?
3.3V 16K x 18 Synchronous Dual-Port Static RAM; Published: 11-Dec-2002; LatestRevisionDate: 13-Apr-2006; LatestRevisionNote: IPC-7351 Footprint Added.; DatasheetVersion: 2-Feb-2001; PackageVersion: Mar-2001; PackageReference: A100; Publisher: Altium Limited; PackageDescription: 100-Pin Thin Quad Flat Pack 0.5 mm Pitch; ComponentLink1Description: Manufacturer Link; ComponentLink1URL: http://www.cypress.com/; ComponentLink2Description: Datasheet; ComponentLink2URL: http://www.cypress.com/portal/server.pt/gateway/PTARGS_0_2_1524_209_259_43/http%3B/sjapp20.mis.cypress.com%3B7001/publishedcontent/publish/design_resources/datasheets/contents/cy7c09269v_5.pdf
footprint A100_N (Thin QFP, 100-Leads, Body 14x14mm, Pitch 0.5mm, IPC Medium Density)
footprint A100_L (Thin QFP, 100-Leads, Body 14x14mm, Pitch 0.5mm, IPC High Density)
footprint A100_M (Thin QFP, 100-Leads, Body 14x14mm, Pitch 0.5mm, IPC Low Density)
3D model CY7C09369V-A100 (100-Pin Thin Quad Flat Pack 0.5 mm Pitch)
pins: 1 A9L (in), 2 A10L (in), 3 A11L (in), 4 A12L (in), 5 A13L (in), 6 NC, 7 NC, 8 ~{LB}L (in), 9 ~{UB}L (in), 10 ~{CE0}L (in), 11 CE1L (in), 12 ~{CNTRST}L (in), 13 R/~{W}L (in), 14 ~{OE}L (in), 15 VCC (power), 16 ~{FT}/PIPEL (in), 17 I/O17L (io), 18 I/O16L (io), 19 VSS (power), 20 I/O15L (io), 21 I/O14L (io), 22 I/O13L (io), 23 I/O12L (io), 24 I/O11L (io), 25 I/O10L (io), 26 I/O9L (io), 27 I/O8L (io), 28 VCC (power), 29 I/O7L (io), 30 I/O6L (io), 31 I/O5L (io), 32 I/O4L (io), 33 I/O3L (io), 34 I/O2L (io), 35 GND (power), 36 I/O1L (io), 37 I/O0L (io), 38 GND (power), 39 I/O0R (io), 40 I/O1R (io), 41 I/O2R (io), 42 I/O3R (io), 43 I/O4R (io), 44 I/O5R (io), 45 I/O6R (io), 46 VCC (power), 47 I/O7R (io), 48 I/O8R (io), 49 I/O9R (io), 50 I/O10R (io), 51 I/O11R (io), 52 I/O12R (io), 53 I/O13R (io), 54 I/O14R (io), 55 I/O15R (io), 56 I/O16R (io), 57 GND (power), 58 I/O17R (io), 59 ~{FT}/PIPER (in), 60 ~{OE}R (in), 61 GND (power), 62 R/~{W}R (in), 63 ~{CNTRST}R (in), 64 CE1R (in), 65 ~{CE}0R (in), 66 ~{UB}R (in), 67 ~{LB}R (in), 68 NC, 69 NC, 70 A13R (in), 71 A12R (in), 72 A11R (in), 73 A10R (in), 74 A9R (in), 75 A8R (in), 76 A7R (in), 77 A6R (in), 78 A5R (in), 79 A4R (in), 80 A3R (in), 81 A2R (in), 82 A1R (in), 83 A0R (in), 84 ~{CNTEN}R (in), 85 CLKR (in), 86 ~{ADS}R (in), 87 GND (power), 88 GND (power), 89 ~{ADS}L (in), 90 CLKL (in), 91 ~{CNTEN}L (in), 92 A0L (in), 93 A1L (in), 94 A2L (in), 95 A3L (in), 96 A4L (in), 97 A5L (in), 98 A6L (in), 99 A7L (in), 100 A8L (in)

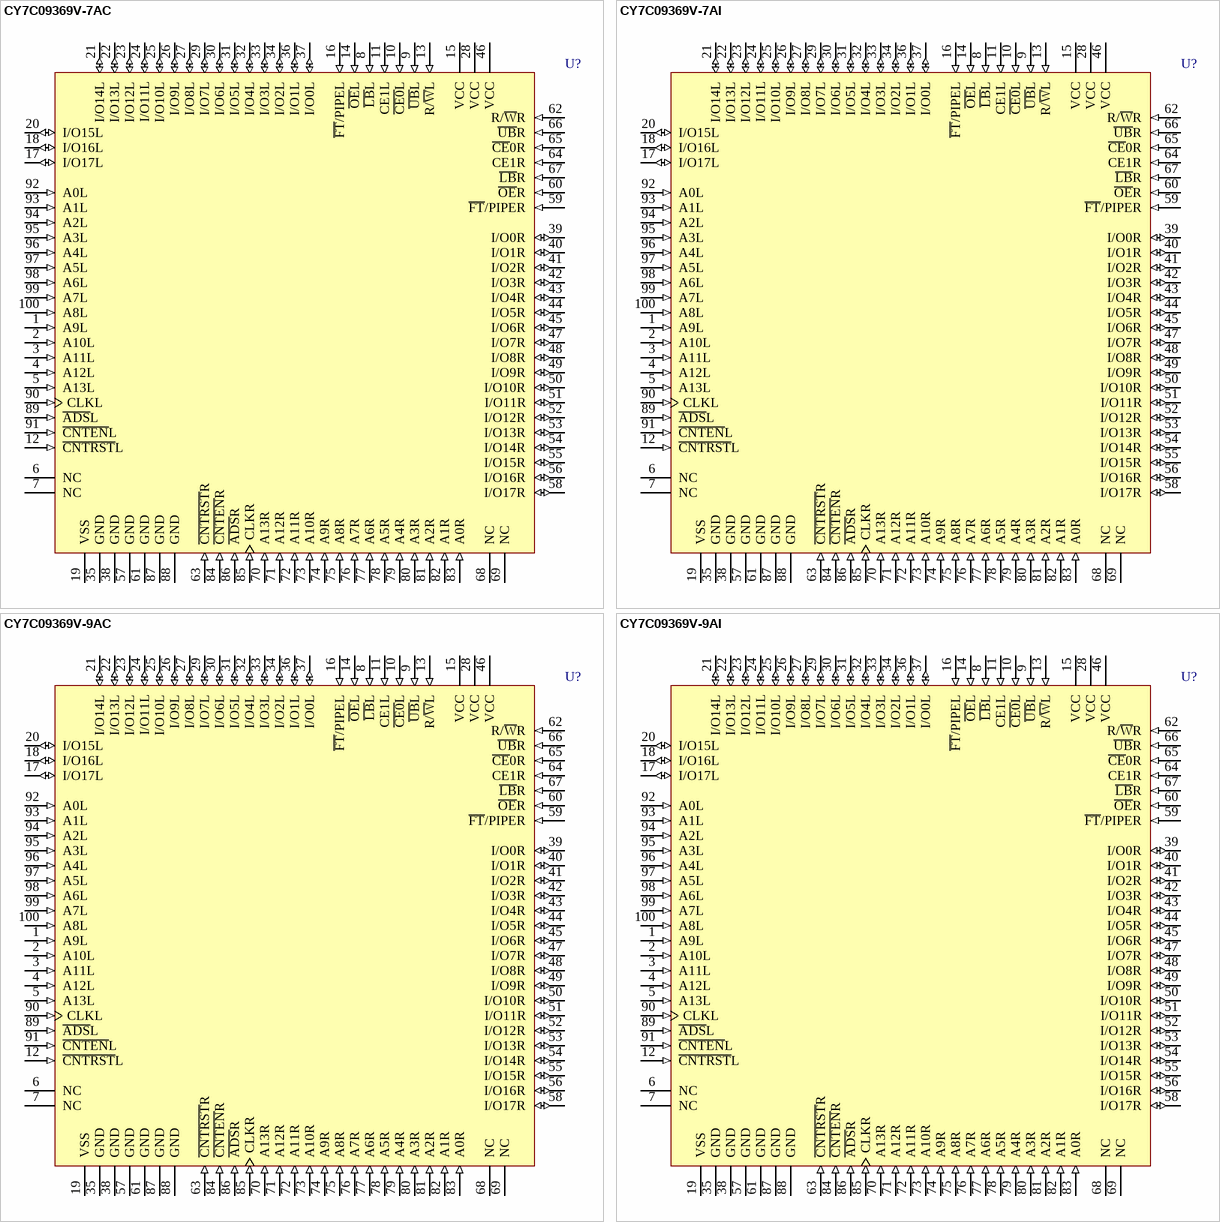
[diagram p20: symbols CY7C09369V-7AC to CY7C09369V-9AI]

## CY7C09369V-7AC
designator U?
3.3V 16K x 18 Synchronous Dual-Port Static RAM; Published: 11-Dec-2002; LatestRevisionDate: 13-Apr-2006; LatestRevisionNote: IPC-7351 Footprint Added.; DatasheetVersion: 2-Feb-2001; PackageVersion: Mar-2001; PackageReference: A100; Publisher: Altium Limited; PackageDescription: 100-Pin Thin Quad Flat Pack 0.5 mm Pitch; ComponentLink1Description: Manufacturer Link; ComponentLink1URL: http://www.cypress.com/; ComponentLink2Description: Datasheet; ComponentLink2URL: http://www.cypress.com/portal/server.pt/gateway/PTARGS_0_2_1524_209_259_43/http%3B/sjapp20.mis.cypress.com%3B7001/publishedcontent/publish/design_resources/datasheets/contents/cy7c09269v_5.pdf
footprint A100_N (Thin QFP, 100-Leads, Body 14x14mm, Pitch 0.5mm, IPC Medium Density)
footprint A100_L (Thin QFP, 100-Leads, Body 14x14mm, Pitch 0.5mm, IPC High Density)
footprint A100_M (Thin QFP, 100-Leads, Body 14x14mm, Pitch 0.5mm, IPC Low Density)
3D model CY7C09369V-A100 (100-Pin Thin Quad Flat Pack 0.5 mm Pitch)
pins: 1 A9L (in), 2 A10L (in), 3 A11L (in), 4 A12L (in), 5 A13L (in), 6 NC, 7 NC, 8 ~{LB}L (in), 9 ~{UB}L (in), 10 ~{CE0}L (in), 11 CE1L (in), 12 ~{CNTRST}L (in), 13 R/~{W}L (in), 14 ~{OE}L (in), 15 VCC (power), 16 ~{FT}/PIPEL (in), 17 I/O17L (io), 18 I/O16L (io), 19 VSS (power), 20 I/O15L (io), 21 I/O14L (io), 22 I/O13L (io), 23 I/O12L (io), 24 I/O11L (io), 25 I/O10L (io), 26 I/O9L (io), 27 I/O8L (io), 28 VCC (power), 29 I/O7L (io), 30 I/O6L (io), 31 I/O5L (io), 32 I/O4L (io), 33 I/O3L (io), 34 I/O2L (io), 35 GND (power), 36 I/O1L (io), 37 I/O0L (io), 38 GND (power), 39 I/O0R (io), 40 I/O1R (io), 41 I/O2R (io), 42 I/O3R (io), 43 I/O4R (io), 44 I/O5R (io), 45 I/O6R (io), 46 VCC (power), 47 I/O7R (io), 48 I/O8R (io), 49 I/O9R (io), 50 I/O10R (io), 51 I/O11R (io), 52 I/O12R (io), 53 I/O13R (io), 54 I/O14R (io), 55 I/O15R (io), 56 I/O16R (io), 57 GND (power), 58 I/O17R (io), 59 ~{FT}/PIPER (in), 60 ~{OE}R (in), 61 GND (power), 62 R/~{W}R (in), 63 ~{CNTRST}R (in), 64 CE1R (in), 65 ~{CE}0R (in), 66 ~{UB}R (in), 67 ~{LB}R (in), 68 NC, 69 NC, 70 A13R (in), 71 A12R (in), 72 A11R (in), 73 A10R (in), 74 A9R (in), 75 A8R (in), 76 A7R (in), 77 A6R (in), 78 A5R (in), 79 A4R (in), 80 A3R (in), 81 A2R (in), 82 A1R (in), 83 A0R (in), 84 ~{CNTEN}R (in), 85 CLKR (in), 86 ~{ADS}R (in), 87 GND (power), 88 GND (power), 89 ~{ADS}L (in), 90 CLKL (in), 91 ~{CNTEN}L (in), 92 A0L (in), 93 A1L (in), 94 A2L (in), 95 A3L (in), 96 A4L (in), 97 A5L (in), 98 A6L (in), 99 A7L (in), 100 A8L (in)

## CY7C09369V-7AI
designator U?
3.3V 16K x 18 Synchronous Dual-Port Static RAM; Published: 11-Dec-2002; LatestRevisionDate: 13-Apr-2006; LatestRevisionNote: IPC-7351 Footprint Added.; DatasheetVersion: 2-Feb-2001; PackageVersion: Mar-2001; PackageReference: A100; Publisher: Altium Limited; PackageDescription: 100-Pin Thin Quad Flat Pack 0.5 mm Pitch; ComponentLink1Description: Manufacturer Link; ComponentLink1URL: http://www.cypress.com/; ComponentLink2Description: Datasheet; ComponentLink2URL: http://www.cypress.com/portal/server.pt/gateway/PTARGS_0_2_1524_209_259_43/http%3B/sjapp20.mis.cypress.com%3B7001/publishedcontent/publish/design_resources/datasheets/contents/cy7c09269v_5.pdf
footprint A100_N (Thin QFP, 100-Leads, Body 14x14mm, Pitch 0.5mm, IPC Medium Density)
footprint A100_L (Thin QFP, 100-Leads, Body 14x14mm, Pitch 0.5mm, IPC High Density)
footprint A100_M (Thin QFP, 100-Leads, Body 14x14mm, Pitch 0.5mm, IPC Low Density)
3D model CY7C09369V-A100 (100-Pin Thin Quad Flat Pack 0.5 mm Pitch)
pins: 1 A9L (in), 2 A10L (in), 3 A11L (in), 4 A12L (in), 5 A13L (in), 6 NC, 7 NC, 8 ~{LB}L (in), 9 ~{UB}L (in), 10 ~{CE0}L (in), 11 CE1L (in), 12 ~{CNTRST}L (in), 13 R/~{W}L (in), 14 ~{OE}L (in), 15 VCC (power), 16 ~{FT}/PIPEL (in), 17 I/O17L (io), 18 I/O16L (io), 19 VSS (power), 20 I/O15L (io), 21 I/O14L (io), 22 I/O13L (io), 23 I/O12L (io), 24 I/O11L (io), 25 I/O10L (io), 26 I/O9L (io), 27 I/O8L (io), 28 VCC (power), 29 I/O7L (io), 30 I/O6L (io), 31 I/O5L (io), 32 I/O4L (io), 33 I/O3L (io), 34 I/O2L (io), 35 GND (power), 36 I/O1L (io), 37 I/O0L (io), 38 GND (power), 39 I/O0R (io), 40 I/O1R (io), 41 I/O2R (io), 42 I/O3R (io), 43 I/O4R (io), 44 I/O5R (io), 45 I/O6R (io), 46 VCC (power), 47 I/O7R (io), 48 I/O8R (io), 49 I/O9R (io), 50 I/O10R (io), 51 I/O11R (io), 52 I/O12R (io), 53 I/O13R (io), 54 I/O14R (io), 55 I/O15R (io), 56 I/O16R (io), 57 GND (power), 58 I/O17R (io), 59 ~{FT}/PIPER (in), 60 ~{OE}R (in), 61 GND (power), 62 R/~{W}R (in), 63 ~{CNTRST}R (in), 64 CE1R (in), 65 ~{CE}0R (in), 66 ~{UB}R (in), 67 ~{LB}R (in), 68 NC, 69 NC, 70 A13R (in), 71 A12R (in), 72 A11R (in), 73 A10R (in), 74 A9R (in), 75 A8R (in), 76 A7R (in), 77 A6R (in), 78 A5R (in), 79 A4R (in), 80 A3R (in), 81 A2R (in), 82 A1R (in), 83 A0R (in), 84 ~{CNTEN}R (in), 85 CLKR (in), 86 ~{ADS}R (in), 87 GND (power), 88 GND (power), 89 ~{ADS}L (in), 90 CLKL (in), 91 ~{CNTEN}L (in), 92 A0L (in), 93 A1L (in), 94 A2L (in), 95 A3L (in), 96 A4L (in), 97 A5L (in), 98 A6L (in), 99 A7L (in), 100 A8L (in)

## CY7C09369V-9AC
designator U?
3.3V 16K x 18 Synchronous Dual-Port Static RAM; Published: 11-Dec-2002; LatestRevisionDate: 13-Apr-2006; LatestRevisionNote: IPC-7351 Footprint Added.; DatasheetVersion: 2-Feb-2001; PackageVersion: Mar-2001; PackageReference: A100; Publisher: Altium Limited; PackageDescription: 100-Pin Thin Quad Flat Pack 0.5 mm Pitch; ComponentLink1Description: Manufacturer Link; ComponentLink1URL: http://www.cypress.com/; ComponentLink2Description: Datasheet; ComponentLink2URL: http://www.cypress.com/portal/server.pt/gateway/PTARGS_0_2_1524_209_259_43/http%3B/sjapp20.mis.cypress.com%3B7001/publishedcontent/publish/design_resources/datasheets/contents/cy7c09269v_5.pdf
footprint A100_N (Thin QFP, 100-Leads, Body 14x14mm, Pitch 0.5mm, IPC Medium Density)
footprint A100_L (Thin QFP, 100-Leads, Body 14x14mm, Pitch 0.5mm, IPC High Density)
footprint A100_M (Thin QFP, 100-Leads, Body 14x14mm, Pitch 0.5mm, IPC Low Density)
3D model CY7C09369V-A100 (100-Pin Thin Quad Flat Pack 0.5 mm Pitch)
pins: 1 A9L (in), 2 A10L (in), 3 A11L (in), 4 A12L (in), 5 A13L (in), 6 NC, 7 NC, 8 ~{LB}L (in), 9 ~{UB}L (in), 10 ~{CE0}L (in), 11 CE1L (in), 12 ~{CNTRST}L (in), 13 R/~{W}L (in), 14 ~{OE}L (in), 15 VCC (power), 16 ~{FT}/PIPEL (in), 17 I/O17L (io), 18 I/O16L (io), 19 VSS (power), 20 I/O15L (io), 21 I/O14L (io), 22 I/O13L (io), 23 I/O12L (io), 24 I/O11L (io), 25 I/O10L (io), 26 I/O9L (io), 27 I/O8L (io), 28 VCC (power), 29 I/O7L (io), 30 I/O6L (io), 31 I/O5L (io), 32 I/O4L (io), 33 I/O3L (io), 34 I/O2L (io), 35 GND (power), 36 I/O1L (io), 37 I/O0L (io), 38 GND (power), 39 I/O0R (io), 40 I/O1R (io), 41 I/O2R (io), 42 I/O3R (io), 43 I/O4R (io), 44 I/O5R (io), 45 I/O6R (io), 46 VCC (power), 47 I/O7R (io), 48 I/O8R (io), 49 I/O9R (io), 50 I/O10R (io), 51 I/O11R (io), 52 I/O12R (io), 53 I/O13R (io), 54 I/O14R (io), 55 I/O15R (io), 56 I/O16R (io), 57 GND (power), 58 I/O17R (io), 59 ~{FT}/PIPER (in), 60 ~{OE}R (in), 61 GND (power), 62 R/~{W}R (in), 63 ~{CNTRST}R (in), 64 CE1R (in), 65 ~{CE}0R (in), 66 ~{UB}R (in), 67 ~{LB}R (in), 68 NC, 69 NC, 70 A13R (in), 71 A12R (in), 72 A11R (in), 73 A10R (in), 74 A9R (in), 75 A8R (in), 76 A7R (in), 77 A6R (in), 78 A5R (in), 79 A4R (in), 80 A3R (in), 81 A2R (in), 82 A1R (in), 83 A0R (in), 84 ~{CNTEN}R (in), 85 CLKR (in), 86 ~{ADS}R (in), 87 GND (power), 88 GND (power), 89 ~{ADS}L (in), 90 CLKL (in), 91 ~{CNTEN}L (in), 92 A0L (in), 93 A1L (in), 94 A2L (in), 95 A3L (in), 96 A4L (in), 97 A5L (in), 98 A6L (in), 99 A7L (in), 100 A8L (in)

## CY7C09369V-9AI
designator U?
3.3V 16K x 18 Synchronous Dual-Port Static RAM; Published: 11-Dec-2002; LatestRevisionDate: 13-Apr-2006; LatestRevisionNote: IPC-7351 Footprint Added.; DatasheetVersion: 2-Feb-2001; PackageVersion: Mar-2001; PackageReference: A100; Publisher: Altium Limited; PackageDescription: 100-Pin Thin Quad Flat Pack 0.5 mm Pitch; ComponentLink1Description: Manufacturer Link; ComponentLink1URL: http://www.cypress.com/; ComponentLink2Description: Datasheet; ComponentLink2URL: http://www.cypress.com/portal/server.pt/gateway/PTARGS_0_2_1524_209_259_43/http%3B/sjapp20.mis.cypress.com%3B7001/publishedcontent/publish/design_resources/datasheets/contents/cy7c09269v_5.pdf
footprint A100_N (Thin QFP, 100-Leads, Body 14x14mm, Pitch 0.5mm, IPC Medium Density)
footprint A100_L (Thin QFP, 100-Leads, Body 14x14mm, Pitch 0.5mm, IPC High Density)
footprint A100_M (Thin QFP, 100-Leads, Body 14x14mm, Pitch 0.5mm, IPC Low Density)
3D model CY7C09369V-A100 (100-Pin Thin Quad Flat Pack 0.5 mm Pitch)
pins: 1 A9L (in), 2 A10L (in), 3 A11L (in), 4 A12L (in), 5 A13L (in), 6 NC, 7 NC, 8 ~{LB}L (in), 9 ~{UB}L (in), 10 ~{CE0}L (in), 11 CE1L (in), 12 ~{CNTRST}L (in), 13 R/~{W}L (in), 14 ~{OE}L (in), 15 VCC (power), 16 ~{FT}/PIPEL (in), 17 I/O17L (io), 18 I/O16L (io), 19 VSS (power), 20 I/O15L (io), 21 I/O14L (io), 22 I/O13L (io), 23 I/O12L (io), 24 I/O11L (io), 25 I/O10L (io), 26 I/O9L (io), 27 I/O8L (io), 28 VCC (power), 29 I/O7L (io), 30 I/O6L (io), 31 I/O5L (io), 32 I/O4L (io), 33 I/O3L (io), 34 I/O2L (io), 35 GND (power), 36 I/O1L (io), 37 I/O0L (io), 38 GND (power), 39 I/O0R (io), 40 I/O1R (io), 41 I/O2R (io), 42 I/O3R (io), 43 I/O4R (io), 44 I/O5R (io), 45 I/O6R (io), 46 VCC (power), 47 I/O7R (io), 48 I/O8R (io), 49 I/O9R (io), 50 I/O10R (io), 51 I/O11R (io), 52 I/O12R (io), 53 I/O13R (io), 54 I/O14R (io), 55 I/O15R (io), 56 I/O16R (io), 57 GND (power), 58 I/O17R (io), 59 ~{FT}/PIPER (in), 60 ~{OE}R (in), 61 GND (power), 62 R/~{W}R (in), 63 ~{CNTRST}R (in), 64 CE1R (in), 65 ~{CE}0R (in), 66 ~{UB}R (in), 67 ~{LB}R (in), 68 NC, 69 NC, 70 A13R (in), 71 A12R (in), 72 A11R (in), 73 A10R (in), 74 A9R (in), 75 A8R (in), 76 A7R (in), 77 A6R (in), 78 A5R (in), 79 A4R (in), 80 A3R (in), 81 A2R (in), 82 A1R (in), 83 A0R (in), 84 ~{CNTEN}R (in), 85 CLKR (in), 86 ~{ADS}R (in), 87 GND (power), 88 GND (power), 89 ~{ADS}L (in), 90 CLKL (in), 91 ~{CNTEN}L (in), 92 A0L (in), 93 A1L (in), 94 A2L (in), 95 A3L (in), 96 A4L (in), 97 A5L (in), 98 A6L (in), 99 A7L (in), 100 A8L (in)

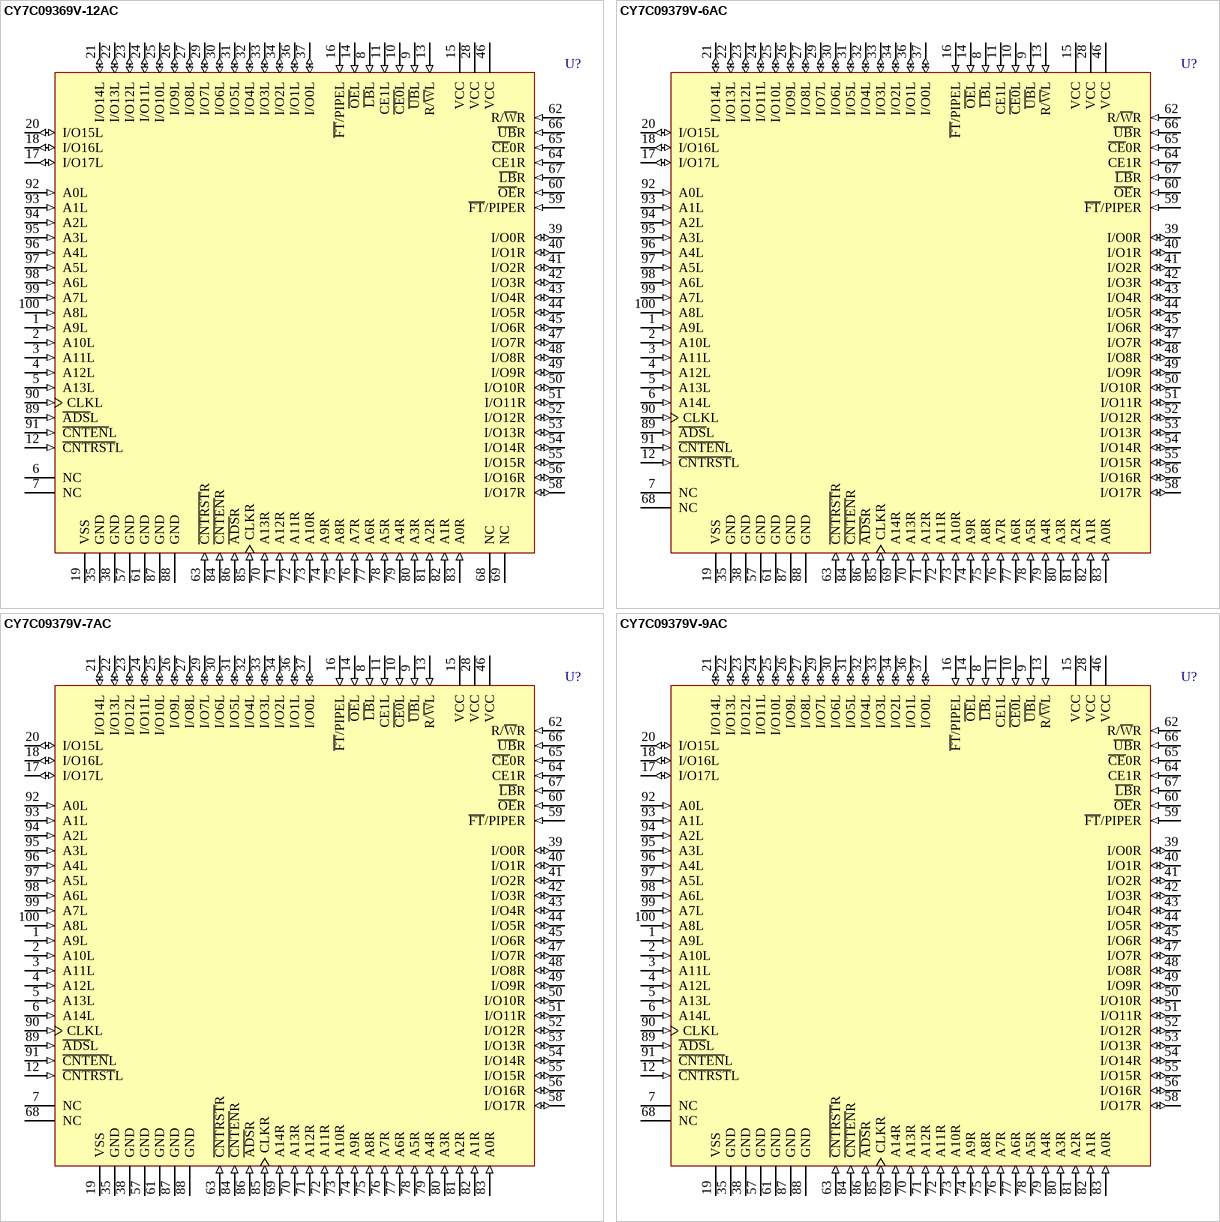
[diagram p21: symbols CY7C09369V-12AC to CY7C09379V-9AC]

## CY7C09369V-12AC
designator U?
3.3V 16K x 18 Synchronous Dual-Port Static RAM; Published: 11-Dec-2002; LatestRevisionDate: 13-Apr-2006; LatestRevisionNote: IPC-7351 Footprint Added.; DatasheetVersion: 2-Feb-2001; PackageVersion: Mar-2001; PackageReference: A100; Publisher: Altium Limited; PackageDescription: 100-Pin Thin Quad Flat Pack 0.5 mm Pitch; ComponentLink1Description: Manufacturer Link; ComponentLink1URL: http://www.cypress.com/; ComponentLink2Description: Datasheet; ComponentLink2URL: http://www.cypress.com/portal/server.pt/gateway/PTARGS_0_2_1524_209_259_43/http%3B/sjapp20.mis.cypress.com%3B7001/publishedcontent/publish/design_resources/datasheets/contents/cy7c09269v_5.pdf
footprint A100_N (Thin QFP, 100-Leads, Body 14x14mm, Pitch 0.5mm, IPC Medium Density)
footprint A100_L (Thin QFP, 100-Leads, Body 14x14mm, Pitch 0.5mm, IPC High Density)
footprint A100_M (Thin QFP, 100-Leads, Body 14x14mm, Pitch 0.5mm, IPC Low Density)
3D model CY7C09369V-A100 (100-Pin Thin Quad Flat Pack 0.5 mm Pitch)
pins: 1 A9L (in), 2 A10L (in), 3 A11L (in), 4 A12L (in), 5 A13L (in), 6 NC, 7 NC, 8 ~{LB}L (in), 9 ~{UB}L (in), 10 ~{CE0}L (in), 11 CE1L (in), 12 ~{CNTRST}L (in), 13 R/~{W}L (in), 14 ~{OE}L (in), 15 VCC (power), 16 ~{FT}/PIPEL (in), 17 I/O17L (io), 18 I/O16L (io), 19 VSS (power), 20 I/O15L (io), 21 I/O14L (io), 22 I/O13L (io), 23 I/O12L (io), 24 I/O11L (io), 25 I/O10L (io), 26 I/O9L (io), 27 I/O8L (io), 28 VCC (power), 29 I/O7L (io), 30 I/O6L (io), 31 I/O5L (io), 32 I/O4L (io), 33 I/O3L (io), 34 I/O2L (io), 35 GND (power), 36 I/O1L (io), 37 I/O0L (io), 38 GND (power), 39 I/O0R (io), 40 I/O1R (io), 41 I/O2R (io), 42 I/O3R (io), 43 I/O4R (io), 44 I/O5R (io), 45 I/O6R (io), 46 VCC (power), 47 I/O7R (io), 48 I/O8R (io), 49 I/O9R (io), 50 I/O10R (io), 51 I/O11R (io), 52 I/O12R (io), 53 I/O13R (io), 54 I/O14R (io), 55 I/O15R (io), 56 I/O16R (io), 57 GND (power), 58 I/O17R (io), 59 ~{FT}/PIPER (in), 60 ~{OE}R (in), 61 GND (power), 62 R/~{W}R (in), 63 ~{CNTRST}R (in), 64 CE1R (in), 65 ~{CE}0R (in), 66 ~{UB}R (in), 67 ~{LB}R (in), 68 NC, 69 NC, 70 A13R (in), 71 A12R (in), 72 A11R (in), 73 A10R (in), 74 A9R (in), 75 A8R (in), 76 A7R (in), 77 A6R (in), 78 A5R (in), 79 A4R (in), 80 A3R (in), 81 A2R (in), 82 A1R (in), 83 A0R (in), 84 ~{CNTEN}R (in), 85 CLKR (in), 86 ~{ADS}R (in), 87 GND (power), 88 GND (power), 89 ~{ADS}L (in), 90 CLKL (in), 91 ~{CNTEN}L (in), 92 A0L (in), 93 A1L (in), 94 A2L (in), 95 A3L (in), 96 A4L (in), 97 A5L (in), 98 A6L (in), 99 A7L (in), 100 A8L (in)

## CY7C09379V-6AC
designator U?
3.3V 32K x 18 Synchronous Dual-Port Static RAM; Published: 11-Dec-2002; LatestRevisionDate: 13-Apr-2006; LatestRevisionNote: IPC-7351 Footprint Added.; DatasheetVersion: 2-Feb-2001; PackageVersion: Mar-2001; PackageReference: A100; Publisher: Altium Limited; PackageDescription: 100-Pin Thin Quad Flat Pack 0.5 mm Pitch; ComponentLink1Description: Manufacturer Link; ComponentLink1URL: http://www.cypress.com/; ComponentLink2Description: Datasheet; ComponentLink2URL: http://www.cypress.com/portal/server.pt/gateway/PTARGS_0_2_1524_209_259_43/http%3B/sjapp20.mis.cypress.com%3B7001/publishedcontent/publish/design_resources/datasheets/contents/cy7c09269v_5.pdf
footprint A100_N (Thin QFP, 100-Leads, Body 14x14mm, Pitch 0.5mm, IPC Medium Density)
footprint A100_L (Thin QFP, 100-Leads, Body 14x14mm, Pitch 0.5mm, IPC High Density)
footprint A100_M (Thin QFP, 100-Leads, Body 14x14mm, Pitch 0.5mm, IPC Low Density)
3D model CY7C09379V-A100 (100-Pin Thin Quad Flat Pack 0.5 mm Pitch)
pins: 1 A9L (in), 2 A10L (in), 3 A11L (in), 4 A12L (in), 5 A13L (in), 6 A14L (in), 7 NC, 8 ~{LB}L (in), 9 ~{UB}L (in), 10 ~{CE0}L (in), 11 CE1L (in), 12 ~{CNTRST}L (in), 13 R/~{W}L (in), 14 ~{OE}L (in), 15 VCC (power), 16 ~{FT}/PIPEL (in), 17 I/O17L (io), 18 I/O16L (io), 19 VSS (power), 20 I/O15L (io), 21 I/O14L (io), 22 I/O13L (io), 23 I/O12L (io), 24 I/O11L (io), 25 I/O10L (io), 26 I/O9L (io), 27 I/O8L (io), 28 VCC (power), 29 I/O7L (io), 30 I/O6L (io), 31 I/O5L (io), 32 I/O4L (io), 33 I/O3L (io), 34 I/O2L (io), 35 GND (power), 36 I/O1L (io), 37 I/O0L (io), 38 GND (power), 39 I/O0R (io), 40 I/O1R (io), 41 I/O2R (io), 42 I/O3R (io), 43 I/O4R (io), 44 I/O5R (io), 45 I/O6R (io), 46 VCC (power), 47 I/O7R (io), 48 I/O8R (io), 49 I/O9R (io), 50 I/O10R (io), 51 I/O11R (io), 52 I/O12R (io), 53 I/O13R (io), 54 I/O14R (io), 55 I/O15R (io), 56 I/O16R (io), 57 GND (power), 58 I/O17R (io), 59 ~{FT}/PIPER (in), 60 ~{OE}R (in), 61 GND (power), 62 R/~{W}R (in), 63 ~{CNTRST}R (in), 64 CE1R (in), 65 ~{CE}0R (in), 66 ~{UB}R (in), 67 ~{LB}R (in), 68 NC, 69 A14R (in), 70 A13R (in), 71 A12R (in), 72 A11R (in), 73 A10R (in), 74 A9R (in), 75 A8R (in), 76 A7R (in), 77 A6R (in), 78 A5R (in), 79 A4R (in), 80 A3R (in), 81 A2R (in), 82 A1R (in), 83 A0R (in), 84 ~{CNTEN}R (in), 85 CLKR (in), 86 ~{ADS}R (in), 87 GND (power), 88 GND (power), 89 ~{ADS}L (in), 90 CLKL (in), 91 ~{CNTEN}L (in), 92 A0L (in), 93 A1L (in), 94 A2L (in), 95 A3L (in), 96 A4L (in), 97 A5L (in), 98 A6L (in), 99 A7L (in), 100 A8L (in)